# EAGLE library part PCA9615 (library PCA9615)
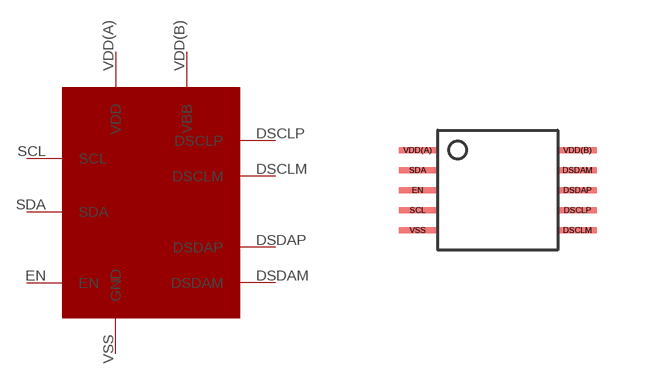
[diagram p0: symbol with the pads of PCA9615; footprint PCA9615]

Designator prefix -

## PCA9615  [PCA9615]
DSCLM  DSCLM
DSCLP  DSCLP
DSDAM  DSDAM
DSDAP  DSDAP
EN  EN
SCL  SCL
SDA  SDA
VDD(A)  VDD  in
VDD(B)  VBB  in
VSS  GND

## Footprint PCA9615 (pad centres in mm)
smd 0.95 x 0.15: DSCLM 2,-1; DSCLP 2,-0.5; DSDAM 2,0.5; DSDAP 2,0; EN -2,0; SCL -2,-0.5; SDA -2,0.5; VDD(A) -2,1; VDD(B) 2,1; VSS -2,-1